# EAGLE library part LORLIN-2-6 (library switch-lorlin)
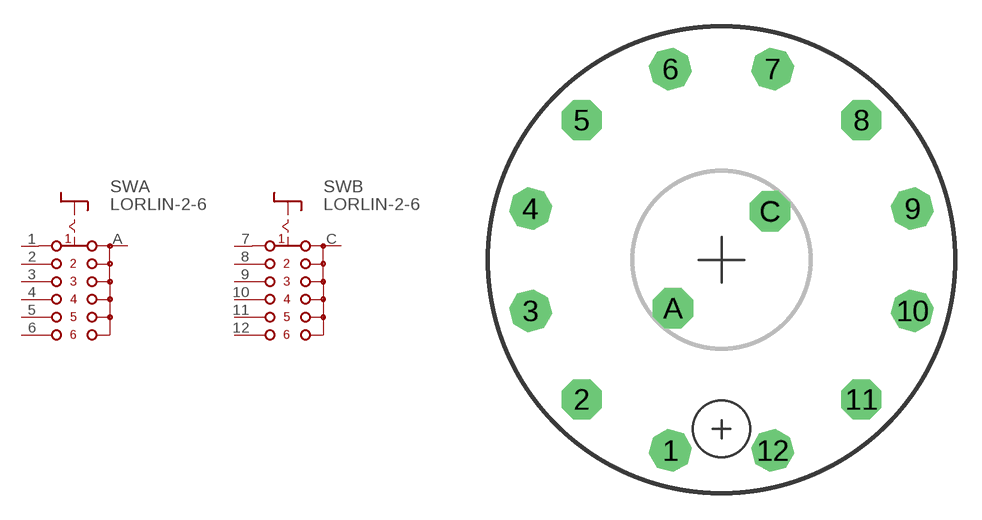
[diagram p0: symbol with the pads of LORLIN-2-6; footprint LORLIN-2-6]

Designator prefix SW; gates A=SW-1-6 B=SW-1-6

## LORLIN-2-6  [LORLIN-2-6]
1  A:1  pas
2  A:2  pas
3  A:3  pas
4  A:4  pas
5  A:5  pas
6  A:6  pas
7  B:1  pas
8  B:2  pas
9  B:3  pas
10  B:4  pas
11  B:5  pas
12  B:6  pas
A  A:S  pas
C  B:S  pas

## Footprint LORLIN-2-6 (pad centres in mm)
drill 1.5 octagon: 1 -2.873,-10.722; 2 -7.849,-7.849; 3 -10.722,-2.873; 4 -10.722,2.873; 5 -7.849,7.849; 6 -2.873,10.722; 7 2.873,10.722; 8 7.849,7.849; 9 10.722,2.873; 10 10.722,-2.873; 11 7.849,-7.849; 12 2.873,-10.722; A -2.722,-2.722; C 2.722,2.722